# Altium integrated library MAX5480BCEE.IntLib: 1 symbol
Pins are listed as number, name and electrical type; pins without a type are passive.

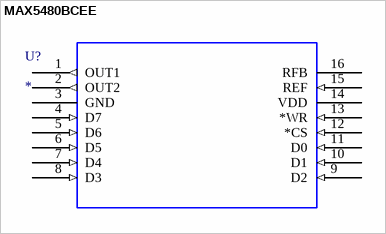
[diagram p0: symbol MAX5480BCEE]

## MAX5480BCEE
designator U?
8 Bit Digital to Analog Converter 1 16-QSOP; MP: MAX5480BCEE; MF: Maxim Integrated; Value: *; Purchase-URL: https://pricing.snapeda.com/search/part/MAX5480BCEE/?ref=eda; Package: SSOP-16 Maxim Integrated; SnapEDA_Link: https://www.snapeda.com/parts/MAX5480BCEE/Maxim%20Integrated/view-part/996337/?ref=snap; Check_prices: https://www.snapeda.com/parts/MAX5480BCEE/Maxim%20Integrated/view-part/996337/?ref=eda; Digi-Key_Part_Number: MAX5480BCEE+-ND
footprint 21-0055H_16
pins: 1 OUT1 (out), 2 OUT2 (out), 3 GND (power), 4 D7 (in), 5 D6 (in), 6 D5 (in), 7 D4 (in), 8 D3 (in), 9 D2 (in), 10 D1 (in), 11 D0 (in), 12 *CS (in), 13 *WR (in), 14 VDD (power), 15 REF (in), 16 RFB